# Altium schematic symbol library TPD4E1B06.SchLib: 2 symbols
Pins are listed as number, name and electrical type; pins without a type are passive.

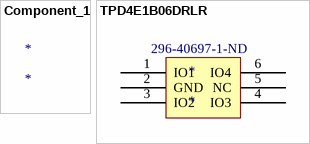
[diagram p0: symbols Component_1 to TPD4E1B06DRLR]

## Component_1
designator *

## TPD4E1B06DRLR
designator *  Supplier Part Number 1: 296-40697-1-ND
TVS DIODE 5.5VWM 14.5VC 6SOT; Manufacturer: Texas Instruments; Manufacturer Part Number: TPD4E1B06DRLR; Bidirectional Channels: 4; Voltage - Reverse Standoff (Typ): 5.5V (Max); Voltage - Breakdown (Min): 7V; Voltage - Clamping (Max) @ Ipp: 14.5V (Typ); Current - Peak Pulse (10/1000µs): 3A (8/20µs); Power - Peak Pulse: 45W; Power Line Protection: No; Supplier 1: Digi-Key; RoHS: RoHS Compliant By Exemption; Category: Circuit Protection; Stock 1: 2244; Pricing 1: 1=0.67, 10=0.585, 25=0.5168, 100=0.4504, 250=0.39204, 500=0.33372, 750=0.2916, 1000=0.2673 (USD); Packaging: Cut Tape (CT); Type: Steering (Rail to Rail); Unidirectional Channels: -; Applications: General Purpose; Capacitance @ Frequency: -; Operating Temperature: -40°C ~ 125°C (TA); Mounting Type: Surface Mount; Package / Case: SOT-563, SOT-666; Supplier Device Package: SOT-6; ComponentLink1URL: http://www.ti.com/lit/ds/symlink/tpd4e1b06.pdf; ComponentLink1Description: http://www.ti.com/lit/ds/symlink/tpd4e1b06.pdf
footprint R-PDSO-N6
pins: 1 IO1, 2 GND, 3 IO2, 4 IO3, 5 NC, 6 IO4